# Altium footprint library analog-devices.PCBLIB: 79 footprints (part 6 of 6)
Each footprint in its own frame and in the unit in brackets; x right, y up, seen from the top. Pads: shape width x height; smd on the part's side, far side on the other; paste and mask are expansions set on the pad; w line width, h text height; cw(c..) or ccw(c..) is an arc to the next point about the centre after c.
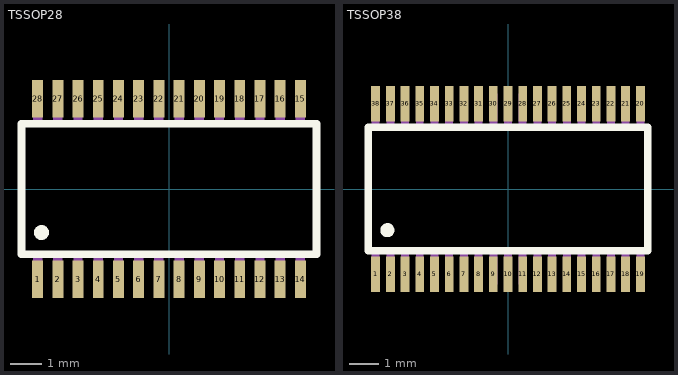
[diagram p5: the footprints below, top view; thin cyan lines are the x and y axes]

## TSSOP28 [mm]
pads (28):
  rect 0.35x1.2 smd: 1(-4.225,-2.9) 2(-3.575,-2.9) 3(-2.925,-2.9) 4(-2.275,-2.9) 5(-1.625,-2.9) 6(-0.975,-2.9) 7(-0.325,-2.9) 8(0.325,-2.9) 9(0.975,-2.9) 10(1.625,-2.9) 11(2.275,-2.9) 12(2.925,-2.9) 13(3.575,-2.9) 14(4.225,-2.9) 15(4.225,2.9) 16(3.575,2.9) 17(2.925,2.9) 18(2.275,2.9) 19(1.625,2.9) 20(0.975,2.9) 21(0.325,2.9) 22(-0.325,2.9) 23(-0.975,2.9) 24(-1.625,2.9) 25(-2.275,2.9) 26(-2.925,2.9) 27(-3.575,2.9) 28(-4.225,2.9)
Top Overlay:
  circle w0.254: c-4.1,-1.4 r0.112
  lines w0.254: -4.75,-2.1 4.75,-2.1 4.75,2.1 -4.75,2.1 -4.75,-2.1
Mechanical 16:
  rectangle: -4.375,-3.25 -4.075,-2.2
  rectangle: -3.725,-3.25 -3.425,-2.2
  rectangle: -3.075,-3.25 -2.775,-2.2
  rectangle: -2.425,-3.25 -2.125,-2.2
  rectangle: -1.775,-3.25 -1.475,-2.2
  rectangle: -1.125,-3.25 -0.825,-2.2
  rectangle: -0.475,-3.25 -0.175,-2.2
  rectangle: 0.175,-3.25 0.475,-2.2
  rectangle: 0.825,-3.25 1.125,-2.2
  rectangle: 1.475,-3.25 1.775,-2.2
  rectangle: 2.125,-3.25 2.425,-2.2
  rectangle: 2.775,-3.25 3.075,-2.2
  rectangle: 3.425,-3.25 3.725,-2.2
  rectangle: 4.075,-3.25 4.375,-2.2
  rectangle: 4.075,2.2 4.375,3.25
  rectangle: 3.425,2.2 3.725,3.25
  rectangle: 2.775,2.2 3.075,3.25
  rectangle: 2.125,2.2 2.425,3.25
  rectangle: 1.475,2.2 1.775,3.25
  rectangle: 0.825,2.2 1.125,3.25
  rectangle: 0.175,2.2 0.475,3.25
  rectangle: -0.475,2.2 -0.175,3.25
  rectangle: -1.125,2.2 -0.825,3.25
  rectangle: -1.775,2.2 -1.475,3.25
  rectangle: -2.425,2.2 -2.125,3.25
  rectangle: -3.075,2.2 -2.775,3.25
  rectangle: -3.725,2.2 -3.425,3.25
  rectangle: -4.375,2.2 -4.075,3.25

## TSSOP38 [mm]
pads (38):
  rect 0.3x1.2 smd: 1(-4.5,-2.9) 2(-4,-2.9) 3(-3.5,-2.9) 4(-3,-2.9) 5(-2.5,-2.9) 6(-2,-2.9) 7(-1.5,-2.9) 8(-1,-2.9) 9(-0.5,-2.9) 10(0,-2.9) 11(0.5,-2.9) 12(1,-2.9) 13(1.5,-2.9) 14(2,-2.9) 15(2.5,-2.9) 16(3,-2.9) 17(3.5,-2.9) 18(4,-2.9) 19(4.5,-2.9) 20(4.5,2.9) 21(4,2.9) 22(3.5,2.9) 23(3,2.9) 24(2.5,2.9) 25(2,2.9) 26(1.5,2.9) 27(1,2.9) 28(0.5,2.9) 29(0,2.9) 30(-0.5,2.9) 31(-1,2.9) 32(-1.5,2.9) 33(-2,2.9) 34(-2.5,2.9) 35(-3,2.9) 36(-3.5,2.9) 37(-4,2.9) 38(-4.5,2.9)
Top Overlay:
  circle w0.254: c-4.1,-1.4 r0.112
  lines w0.254: -4.75,-2.1 4.75,-2.1 4.75,2.1 -4.75,2.1 -4.75,-2.1
Mechanical 16:
  rectangle: -4.635,-3.25 -4.365,-2.2
  rectangle: -4.135,-3.25 -3.865,-2.2
  rectangle: -3.635,-3.25 -3.365,-2.2
  rectangle: -3.135,-3.25 -2.865,-2.2
  rectangle: -2.635,-3.25 -2.365,-2.2
  rectangle: -2.135,-3.25 -1.865,-2.2
  rectangle: -1.635,-3.25 -1.365,-2.2
  rectangle: -1.135,-3.25 -0.865,-2.2
  rectangle: -0.635,-3.25 -0.365,-2.2
  rectangle: -0.135,-3.25 0.135,-2.2
  rectangle: 0.365,-3.25 0.635,-2.2
  rectangle: 0.865,-3.25 1.135,-2.2
  rectangle: 1.365,-3.25 1.635,-2.2
  rectangle: 1.865,-3.25 2.135,-2.2
  rectangle: 2.365,-3.25 2.635,-2.2
  rectangle: 2.865,-3.25 3.135,-2.2
  rectangle: 3.365,-3.25 3.635,-2.2
  rectangle: 3.865,-3.25 4.135,-2.2
  rectangle: 4.365,-3.25 4.635,-2.2
  region: 4.635,3.25 4.365,3.25 4.365,2.2 4.635,2.2
  region: 4.135,3.25 3.865,3.25 3.865,2.2 4.135,2.2
  region: 3.635,3.25 3.365,3.25 3.365,2.2 3.635,2.2
  region: 3.135,3.25 2.865,3.25 2.865,2.2 3.135,2.2
  region: 2.635,3.25 2.365,3.25 2.365,2.2 2.635,2.2
  region: 2.135,3.25 1.865,3.25 1.865,2.2 2.135,2.2
  region: 1.635,3.25 1.365,3.25 1.365,2.2 1.635,2.2
  region: 1.135,3.25 0.865,3.25 0.865,2.2 1.135,2.2
  region: 0.635,3.25 0.365,3.25 0.365,2.2 0.635,2.2
  region: 0.135,3.25 -0.135,3.25 -0.135,2.2 0.135,2.2
  region: -0.365,3.25 -0.635,3.25 -0.635,2.2 -0.365,2.2
  region: -0.865,3.25 -1.135,3.25 -1.135,2.2 -0.865,2.2
  region: -1.365,3.25 -1.635,3.25 -1.635,2.2 -1.365,2.2
  region: -1.865,3.25 -2.135,3.25 -2.135,2.2 -1.865,2.2
  region: -2.365,3.25 -2.635,3.25 -2.635,2.2 -2.365,2.2
  region: -2.865,3.25 -3.135,3.25 -3.135,2.2 -2.865,2.2
  region: -3.365,3.25 -3.635,3.25 -3.635,2.2 -3.365,2.2
  region: -3.865,3.25 -4.135,3.25 -4.135,2.2 -3.865,2.2
  region: -4.365,3.25 -4.635,3.25 -4.635,2.2 -4.365,2.2